# Altium footprint library PcbLib1.PcbLib: 19 footprints (part 2 of 2)
Each footprint in its own frame and in the unit in brackets; x right, y up, seen from the top. Pads: shape width x height; smd on the part's side, far side on the other; paste and mask are expansions set on the pad; w line width, h text height; cw(c..) or ccw(c..) is an arc to the next point about the centre after c.
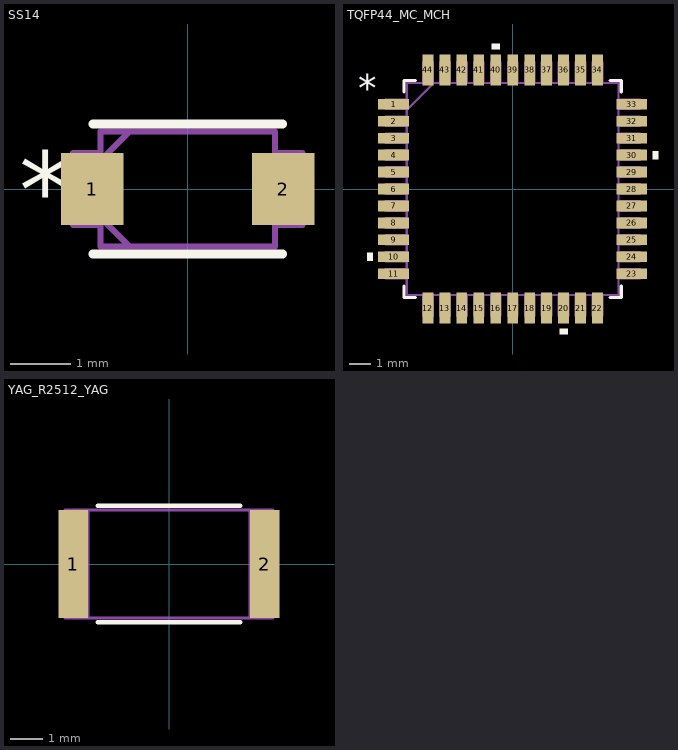
[diagram p1: the footprints below, top view; thin cyan lines are the x and y axes]

## SS14 [mil]
pads (2):
  rect 40.87x47 smd paste+0 mask+0: 1(-62.44,0) 2(62.44,0)
Top Overlay:
  lines w6: -62,-42.5 62,-42.5 ; -62,42.5 62,42.5
  text "*" at -110.37,-25 h50
Top Assembly:
  lines w3.94: -57,-18.75 -38.25,-37.5 ; -57,18.75 -38.25,37.5 ; -75,-23.5 -75,23.5 -57,23.5 -57,-23.5 -75,-23.5 ; -57,-37.5 57,-37.5 57,37.5 -57,37.5 -57,-37.5 ; 57,-23.5 57,23.5 75,23.5 75,-23.5 57,-23.5
  text "*" at -59.5,-25 h50
3D body "CR_SUB-SMA_TWS.step": height 56.26, standoff 0, extent -75,-37.48 75,37.48

## TQFP44_MC_MCH [mm]
pads (44):
  rect 1.462x0.507 smd paste+0 mask+0: 1(-5.619,4) 2(-5.619,3.2) 3(-5.619,2.4) 4(-5.619,1.6) 5(-5.619,0.8) 6(-5.619,0) 7(-5.619,-0.8) 8(-5.619,-1.6) 9(-5.619,-2.4) 10(-5.619,-3.2) 11(-5.619,-4) 23(5.619,-4) 24(5.619,-3.2) 25(5.619,-2.4) 26(5.619,-1.6) 27(5.619,-0.8) 28(5.619,0) 29(5.619,0.8) 30(5.619,1.6) 31(5.619,2.4) 32(5.619,3.2) 33(5.619,4)
  rect 0.507x1.462 smd paste+0 mask+0: 12(-4,-5.619) 13(-3.2,-5.619) 14(-2.4,-5.619) 15(-1.6,-5.619) 16(-0.8,-5.619) 17(0,-5.619) 18(0.8,-5.619) 19(1.6,-5.619) 20(2.4,-5.619) 21(3.2,-5.619) 22(4,-5.619) 34(4,5.619) 35(3.2,5.619) 36(2.4,5.619) 37(1.6,5.619) 38(0.8,5.619) 39(0,5.619) 40(-0.8,5.619) 41(-1.6,5.619) 42(-2.4,5.619) 43(-3.2,5.619) 44(-4,5.619)
Top Overlay:
  region: -0.61,6.604 -0.991,6.604 -0.991,6.858 -0.61,6.858
  region: 6.604,1.79 6.858,1.79 6.858,1.409 6.604,1.409
  region: 2.591,-6.604 2.21,-6.604 2.21,-6.858 2.591,-6.858
  region: -6.604,-3.009 -6.858,-3.009 -6.858,-3.39 -6.604,-3.39
  lines w0.152: -5.127,-4.586 -5.127,-5.127 -4.586,-5.127 ; -5.127,4.586 -5.127,5.127 -4.586,5.127 ; 4.586,-5.127 5.127,-5.127 5.127,-4.586 ; 4.586,5.127 5.127,5.127 5.127,4.586
  text "*" at -7.302,4.146 h1.27
Top Assembly:
  drawing of 181 lines, arcs and shapes, not listed
  text "*" at -4.937,3.765 h1.27
3D body "TQFP44_MC_MCH.step": height 1.2, standoff 0, extent -6,-6 6,6

## YAG_R2512_YAG [mil]
pads (2):
  rect 35.87x132 smd paste+0 mask+0: 1(-116.94,0) 2(116.94,0)
Top Overlay:
  lines w6: -86.89,-71 86.89,-71 ; -86.89,71 86.89,71
Top Assembly:
  lines w3.94: -127,-66 127,-66 ; -127,-66 -127,66 ; -127,-66 -127,66 ; -127,-66 -99,-66 -99,66 -127,66 ; -127,66 127,66 ; 127,-66 127,66 ; 127,-66 127,66 ; 127,-66 99,-66 99,66 127,66
3D body "YAG_R2512_YAG.step": height 25.98, standoff 0, extent -127,-65.98 127.01,65.99